# Altium schematic symbol library 90272A144.SchLib: 1 symbol
Pins are listed as number, name and electrical type; pins without a type are passive.

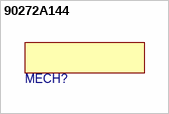
[diagram p0: symbol 90272A144]

## 90272A144
designator MECH?  (mechanical)